# EAGLE library part JTAG-10 (library nxp-arm)
JTAG 10-PIN 0.05" pitch connector
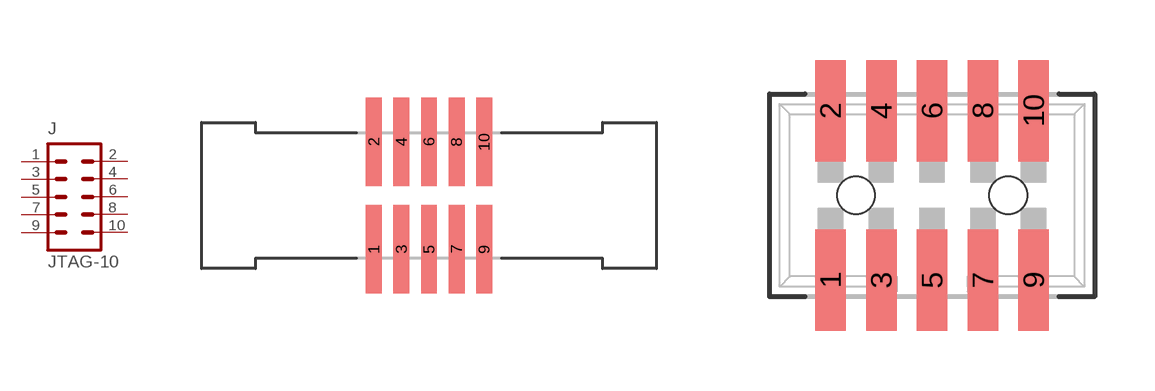
[diagram p3: symbol with the pads of EHF-105-01-L-D-SM; footprints EHF-105-01-L-D-SM, FTSH-105-01-L-DV-K]

Designator prefix J

## JTAG-10-EHF-105  [EHF-105-01-L-D-SM]
1  1  pas
2  2  pas
3  3  pas
4  4  pas
5  5  pas
6  6  pas
7  7  pas
8  8  pas
9  9  pas
10  10  pas

## JTAG-10-FTSH-105 (P1I: o)  [FTSH-105-01-L-DV-K]
Pads as for EHF-105-01-L-D-SM

## Footprint EHF-105-01-L-D-SM (pad centres in mm)
CONN HEADER .05" 10POS DUAL SMD Samtech
smd 0.737 x 4.089: 1 -2.54,-2.477; 2 -2.54,2.477; 3 -1.27,-2.477; 4 -1.27,2.477; 5 0,-2.477; 6 0,2.477; 7 1.27,-2.477; 8 1.27,2.477; 9 2.54,-2.477; 10 2.54,2.477

## Footprint FTSH-105-01-L-DV-K (pad centres in mm)
CONNECTOR HEADER Samtec FTSH-105-01-L-DV-K
smd 0.762 x 2.54: 1 -2.54,-2.121; 2 -2.54,2.121; 3 -1.27,-2.121; 4 -1.27,2.121; 5 0,-2.121; 6 0,2.121; 7 1.27,-2.121; 8 1.27,2.121; 9 2.54,-2.121; 10 2.54,2.121
hole 0.94 at -1.905,0
hole 0.94 at 1.905,0